# Altium schematic symbol library RES80.SchLib: 1 symbol
Pins are listed as number, name and electrical type; pins without a type are passive.

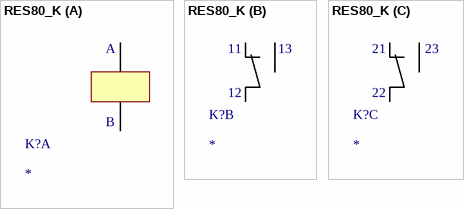
[diagram p0: symbol RES80_K]

## RES80_K
designator K?
footprint RES80
footprint RES80_P
part A pins: 0, 1
part B pins: 3, 6, 7
part C pins: 2, 4, 5
part A text: A; B
part B text: 11; 13; 12
part C text: 21; 23; 22